# EAGLE library part TPS63031 (library Capstone Library)
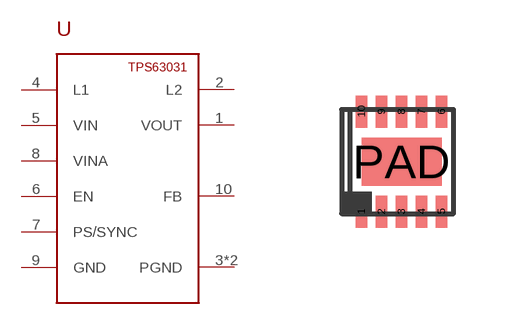
[diagram p6: symbol with the pads of SON-10; footprint SON-10]

Designator prefix -

## TPS63031  [SON-10]
1  VOUT
2  L2
3  PGND
4  L1
5  VIN
6  EN
7  PS/SYNC
8  VINA
9  GND
10  FB
PAD  PGND

## Footprint SON-10 (pad centres in mm)
SON 10 Pin Source: Data shhet <http://www.mcrystal.ch/CMSPages/GetFile.aspx?nodeguid=c85958d8-94ca-4325-87c5-e65a30ad4bd5>
smd 0.28 x 0.8: 1 -1,-1.25; 2 -0.5,-1.25; 3 0,-1.25; 4 0.5,-1.25; 5 1,-1.25; 6 1,1.25; 7 0.5,1.25; 8 0,1.25; 9 -0.5,1.25; 10 -1,1.25
smd 2 x 1.2: PAD 0,0